# EAGLE library part HA3-5033-5 (library Intersil_By_element14_Batch_1)
250MHz Video Buffer
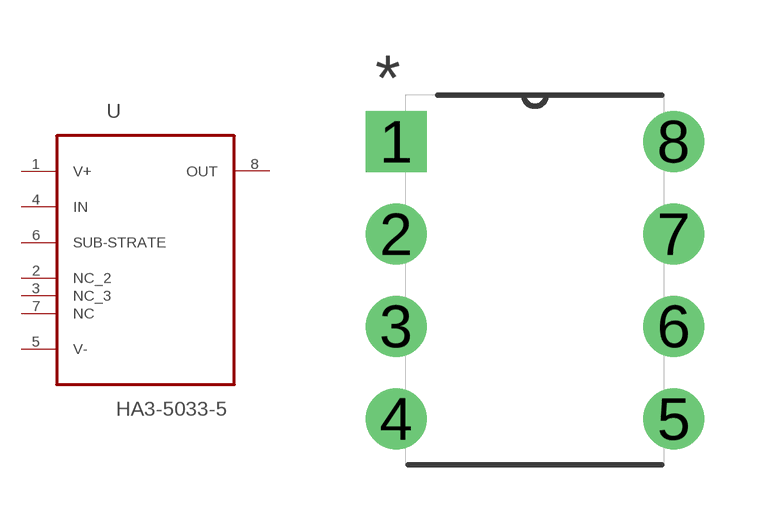
[diagram p93: symbol with the pads of DIP254P762X533-8; footprint DIP254P762X533-8]

Designator prefix U

## HA3-5033-5 (MPN: HA3-5033-5; OC_FARNELL: 1651858; OC_NEWARK: 06F5244; PACKAGE: PDIP; SUPPLIER: INTERSIL)  [DIP254P762X533-8]
1  V+  pwr
2  NC_2  nc
3  NC_3  nc
4  IN  in
5  V-  pwr
6  SUB-STRATE  pas
7  NC  nc
8  OUT  out

## Footprint DIP254P762X533-8 (pad centres in mm)
drill 1.118 square: 1 -7.62,7.62
drill 1.118: 2 -7.62,5.08; 3 -7.62,2.54; 4 -7.62,0; 5 0,0; 6 0,2.54; 7 0,5.08; 8 0,7.62